# Altium footprint library DIMM168_90.PcbLib: 1 footprints
Each footprint in its own frame and in the unit in brackets; x right, y up, seen from the top. Pads: shape width x height; smd on the part's side, far side on the other; paste and mask are expansions set on the pad; w line width, h text height; cw(c..) or ccw(c..) is an arc to the next point about the centre after c.
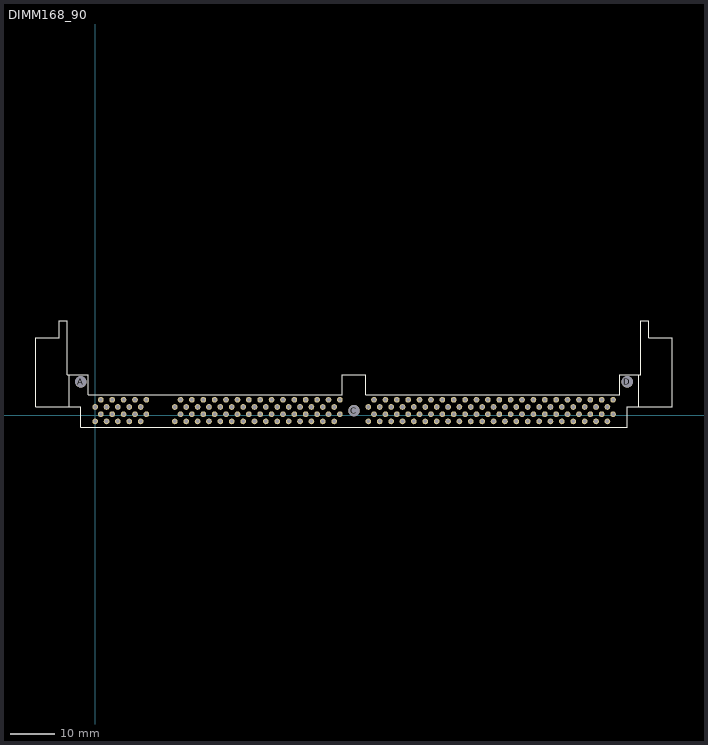
[diagram p0: the footprint, top view; thin cyan lines are the x and y axes]

## DIMM168_90 [mil]
pads (171):
  round 50 hole 32: 1(1,-55) 2(51,8) 3(101,-55) 4(151,8) 5(201,-55) 6(251,8) 7(301,-55) 8(351,8) 9(401,-55) 10(451,8) 11(701,-55) 12(751,8) 13(801,-55) 14(851,8) 15(901,-55) 16(951,8) 17(1001,-55) 18(1051,8) 19(1101,-55) 20(1151,8) 21(1201,-55) 22(1251,8) 23(1301,-55) 24(1351,8) 25(1401,-55) 26(1451,8) 27(1501,-55) 28(1551,8) 29(1601,-55) 30(1651,8) 31(1701,-55) 32(1751,8) 33(1801,-55) 34(1851,8) 35(1901,-55) 36(1951,8) 37(2001,-55) 38(2051,8) 39(2101,-55) 40(2151,8) 41(2401,-55) 42(2451,8) 43(2501,-55) 44(2551,8) 45(2601,-55) 46(2651,8) 47(2701,-55) 48(2751,8) 49(2801,-55) 50(2851,8) 51(2901,-55) 52(2951,8) 53(3001,-55) 54(3051,8) 55(3101,-55) 56(3151,8) 57(3201,-55) 58(3251,8) 59(3301,-55) 60(3351,8) 61(3401,-55) 62(3451,8) 63(3501,-55) 64(3551,8) 65(3601,-55) 66(3651,8) 67(3701,-55) 68(3751,8) 69(3801,-55) 70(3851,8) 71(3901,-55) 72(3951,8) 73(4001,-55) 74(4051,8) 75(4101,-55) 76(4151,8) 77(4201,-55) 78(4251,8) 79(4301,-55) 80(4351,8) 81(4401,-55) 82(4451,8) 83(4501,-55) 84(4551,8) 85(1,72) 86(51,135) 87(101,72) 88(151,135) 89(201,72) 90(251,135) 91(301,72) 92(351,135) 93(401,72) 94(451,135) 95(701,72) 96(751,135) 97(801,72) 98(851,135) 99(901,72) 100(951,135) 101(1001,72) 102(1051,135) 103(1101,72) 104(1151,135) 105(1201,72) 106(1251,135) 107(1301,72) 108(1351,135) 109(1401,72) 110(1451,135) 111(1501,72) 112(1551,135) 113(1601,72) 114(1651,135) 115(1701,72) 116(1751,135) 117(1801,72) 118(1851,135) 119(1901,72) 120(1951,135) 121(2001,72) 122(2051,135) 123(2101,72) 124(2151,135) 125(2401,72) 126(2451,135) 127(2501,72) 128(2551,135) 129(2601,72) 130(2651,135) 131(2701,72) 132(2751,135) 133(2801,72) 134(2851,135) 135(2901,72) 136(2951,135) 137(3001,72) 138(3051,135) 139(3101,72) 140(3151,135) 141(3201,72) 142(3251,135) 143(3301,72) 144(3351,135) 145(3401,72) 146(3451,135) 147(3501,72) 148(3551,135) 149(3601,72) 150(3651,135) 151(3701,72) 152(3751,135) 153(3801,72) 154(3851,135) 155(3901,72) 156(3951,135) 157(4001,72) 158(4051,135) 159(4101,72) 160(4151,135) 161(4201,72) 162(4251,135) 163(4301,72) 164(4351,135) 165(4401,72) 166(4451,135) 167(4501,72) 168(4551,135)
  round 100 hole 100: A(-125,292) C(2275,40) D(4675,292)
Top Overlay:
  lines w8: -520,180 -520,72 ; -225,74 -225,180 -225,355 ; 4775,74 4775,180 4775,355 ; -520,72 -125,72 -125,-105 4674,-105 4674,72 5070,72 5070,180 5070,678 4862,678 4862,828 4795,828 4795,678 4795,355 4775,355 ; -520,72 -520,678 -312,678 -312,828 -245,828 -245,745 -245,678 -245,355 -225,355 ; -225,355 -60,355 -60,180 2170,180 2170,355 2378,355 2378,180 4610,180 4610,355 4775,355
3D body: height 590.55, standoff -78.74, extent -617.71,-105 5167.71,945.19